# Altium integrated library CMI-1271-85-SMT-TR.IntLib: 1 symbol
Pins are listed as number, name and electrical type; pins without a type are passive.

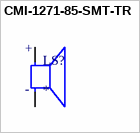
[diagram p0: symbol CMI-1271-85-SMT-TR]

## CMI-1271-85-SMT-TR
designator LS?
MP: CMI-1271-85-SMT-TR; Value: *; Package: None; Price: None; Availability: Unavailable
footprint CUI_CMI-1271-85-SMT-TR
pins: N, P
text: +; -